# Altium schematic symbol library EAGLE-ISOLATED_CONVERTER-rev16e.SCHLIB: 23 symbols
Pins are listed as number, name and electrical type; pins without a type are passive.

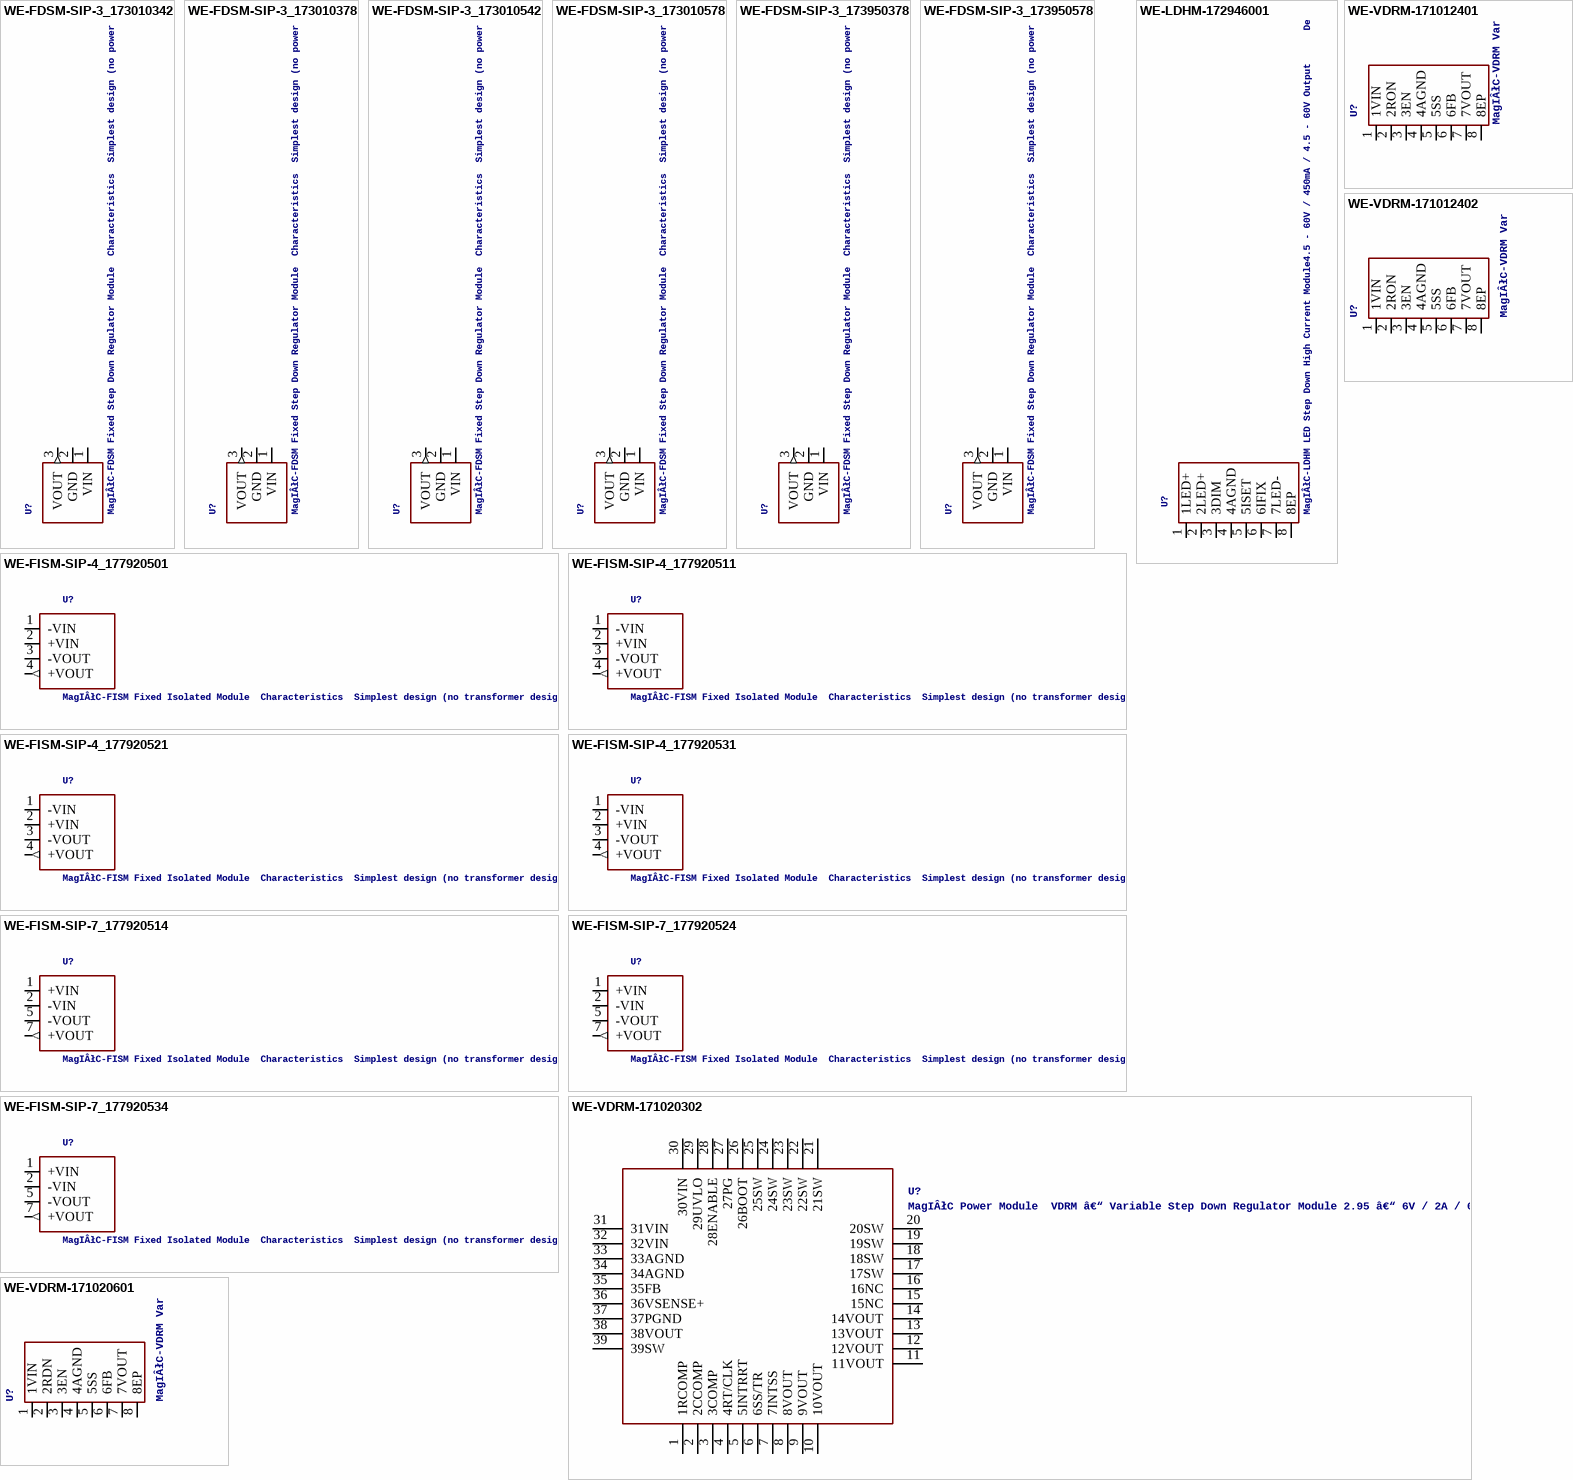
[diagram p0: symbols WE-FDSM-SIP-3_173010342 to WE-VDRM-171020601]

## WE-FDSM-SIP-3_173010342
designator U?, comment MagIÂłC-FDSM Fixed Step Down Regulator Module  Characteristics  Simplest design (no power supply knowledge required)  Leaded through-hole package for easy manufacturing and prototyping  Stand alone solution (CIN and COUT integrated, no external components)  L78x series linear regulator replacement (no heatsink required)  Low conducted and radiated EMI (compliant to EN55022 class B)   Applications  Point-of-Load from 24V, 18V, 15V, 12V, 9V rail  Replacement for linear regulators  Interface and microcontroller supply  Industrial, Test & Measurement, Medical applications  System power supplies      Details see: http://katalog.we-online.de/pm/datasheet/173010378.pdf   2015 (C) Wurth Elektronik
footprint FDSM-173XXXX42
pins: 1 VIN, 2 GND (power), 3 VOUT (out)

## WE-FDSM-SIP-3_173010378
designator U?, comment MagIÂłC-FDSM Fixed Step Down Regulator Module  Characteristics  Simplest design (no power supply knowledge required)  Leaded through-hole package for easy manufacturing and prototyping  Stand alone solution (CIN and COUT integrated, no external components)  L78x series linear regulator replacement (no heatsink required)  Low conducted and radiated EMI (compliant to EN55022 class B)   Applications  Point-of-Load from 24V, 18V, 15V, 12V, 9V rail  Replacement for linear regulators  Interface and microcontroller supply  Industrial, Test & Measurement, Medical applications  System power supplies      Details see: http://katalog.we-online.de/pm/datasheet/173010378.pdf   2015 (C) Wurth Elektronik
footprint FDSM_173010X78
pins: 1 VIN, 2 GND (power), 3 VOUT (out)

## WE-FDSM-SIP-3_173010542
designator U?, comment MagIÂłC-FDSM Fixed Step Down Regulator Module  Characteristics  Simplest design (no power supply knowledge required)  Leaded through-hole package for easy manufacturing and prototyping  Stand alone solution (CIN and COUT integrated, no external components)  L78x series linear regulator replacement (no heatsink required)  Low conducted and radiated EMI (compliant to EN55022 class B)   Applications  Point-of-Load from 24V, 18V, 15V, 12V, 9V rail  Replacement for linear regulators  Interface and microcontroller supply  Industrial, Test & Measurement, Medical applications  System power supplies      Details see: http://katalog.we-online.de/pm/datasheet/173010378.pdf   2015 (C) Wurth Elektronik
footprint FDSM-173XXXX42
pins: 1 VIN, 2 GND (power), 3 VOUT (out)

## WE-FDSM-SIP-3_173010578
designator U?, comment MagIÂłC-FDSM Fixed Step Down Regulator Module  Characteristics  Simplest design (no power supply knowledge required)  Leaded through-hole package for easy manufacturing and prototyping  Stand alone solution (CIN and COUT integrated, no external components)  L78x series linear regulator replacement (no heatsink required)  Low conducted and radiated EMI (compliant to EN55022 class B)   Applications  Point-of-Load from 24V, 18V, 15V, 12V, 9V rail  Replacement for linear regulators  Interface and microcontroller supply  Industrial, Test & Measurement, Medical applications  System power supplies      Details see: http://katalog.we-online.de/pm/datasheet/173010378.pdf   2015 (C) Wurth Elektronik
footprint FDSM_173010X78
pins: 1 VIN, 2 GND (power), 3 VOUT (out)

## WE-FDSM-SIP-3_173950378
designator U?, comment MagIÂłC-FDSM Fixed Step Down Regulator Module  Characteristics  Simplest design (no power supply knowledge required)  Leaded through-hole package for easy manufacturing and prototyping  Stand alone solution (CIN and COUT integrated, no external components)  L78x series linear regulator replacement (no heatsink required)  Low conducted and radiated EMI (compliant to EN55022 class B)   Applications  Point-of-Load from 24V, 18V, 15V, 12V, 9V rail  Replacement for linear regulators  Interface and microcontroller supply  Industrial, Test & Measurement, Medical applications  System power supplies      Details see: http://katalog.we-online.de/pm/datasheet/173010378.pdf   2015 (C) Wurth Elektronik
footprint FDSM_17395XX78
pins: 1 VIN, 2 GND (power), 3 VOUT (out)

## WE-FDSM-SIP-3_173950578
designator U?, comment MagIÂłC-FDSM Fixed Step Down Regulator Module  Characteristics  Simplest design (no power supply knowledge required)  Leaded through-hole package for easy manufacturing and prototyping  Stand alone solution (CIN and COUT integrated, no external components)  L78x series linear regulator replacement (no heatsink required)  Low conducted and radiated EMI (compliant to EN55022 class B)   Applications  Point-of-Load from 24V, 18V, 15V, 12V, 9V rail  Replacement for linear regulators  Interface and microcontroller supply  Industrial, Test & Measurement, Medical applications  System power supplies      Details see: http://katalog.we-online.de/pm/datasheet/173010378.pdf   2015 (C) Wurth Elektronik
footprint FDSM_17395XX78
pins: 1 VIN, 2 GND (power), 3 VOUT (out)

## WE-FISM-SIP-4_177920501
designator U?, comment MagIÂłC-FISM Fixed Isolated Module  Characteristics  Simplest design (no transformer design know how required)  Leaded through-hole package for easy manufacturing and prototyping  Stand alone solution (CIN and COUT integrated, no external components)  Simple functional isolation for overvoltage protection, avoiding ground loops, ground shift and noise in signal path or sensor systems  Industrial standard package and pin configuration  Low conducted and radiated EMI (compliant to EN55022 class B)  UL60950 certified    Applications  Data acquisition  Test and measurement systems  Interface and microcontroller supply  Industrial control       Details see: http://katalog.we-online.de/en/pm/MAGIC-FISM    Created by Yingchun,Shan 2016 (C) Wurth Elektronik
footprint FISM_17792XXX1
pins: 1 -VIN (power), 2 +VIN, 3 -VOUT (power), 4 +VOUT (out)

## WE-FISM-SIP-4_177920511
designator U?, comment MagIÂłC-FISM Fixed Isolated Module  Characteristics  Simplest design (no transformer design know how required)  Leaded through-hole package for easy manufacturing and prototyping  Stand alone solution (CIN and COUT integrated, no external components)  Simple functional isolation for overvoltage protection, avoiding ground loops, ground shift and noise in signal path or sensor systems  Industrial standard package and pin configuration  Low conducted and radiated EMI (compliant to EN55022 class B)  UL60950 certified    Applications  Data acquisition  Test and measurement systems  Interface and microcontroller supply  Industrial control       Details see: http://katalog.we-online.de/en/pm/MAGIC-FISM    Created by Yingchun,Shan 2016 (C) Wurth Elektronik
footprint FISM_17792XXX1
pins: 1 -VIN (power), 2 +VIN, 3 -VOUT (power), 4 +VOUT (out)

## WE-FISM-SIP-4_177920521
designator U?, comment MagIÂłC-FISM Fixed Isolated Module  Characteristics  Simplest design (no transformer design know how required)  Leaded through-hole package for easy manufacturing and prototyping  Stand alone solution (CIN and COUT integrated, no external components)  Simple functional isolation for overvoltage protection, avoiding ground loops, ground shift and noise in signal path or sensor systems  Industrial standard package and pin configuration  Low conducted and radiated EMI (compliant to EN55022 class B)  UL60950 certified    Applications  Data acquisition  Test and measurement systems  Interface and microcontroller supply  Industrial control       Details see: http://katalog.we-online.de/en/pm/MAGIC-FISM    Created by Yingchun,Shan 2016 (C) Wurth Elektronik
footprint FISM_17792XXX1
pins: 1 -VIN (power), 2 +VIN, 3 -VOUT (power), 4 +VOUT (out)

## WE-FISM-SIP-4_177920531
designator U?, comment MagIÂłC-FISM Fixed Isolated Module  Characteristics  Simplest design (no transformer design know how required)  Leaded through-hole package for easy manufacturing and prototyping  Stand alone solution (CIN and COUT integrated, no external components)  Simple functional isolation for overvoltage protection, avoiding ground loops, ground shift and noise in signal path or sensor systems  Industrial standard package and pin configuration  Low conducted and radiated EMI (compliant to EN55022 class B)  UL60950 certified    Applications  Data acquisition  Test and measurement systems  Interface and microcontroller supply  Industrial control       Details see: http://katalog.we-online.de/en/pm/MAGIC-FISM    Created by Yingchun,Shan 2016 (C) Wurth Elektronik
footprint FISM_17792XXX1
pins: 1 -VIN (power), 2 +VIN, 3 -VOUT (power), 4 +VOUT (out)

## WE-FISM-SIP-7_177920514
designator U?, comment MagIÂłC-FISM Fixed Isolated Module  Characteristics  Simplest design (no transformer design know how required)  Leaded through-hole package for easy manufacturing and prototyping  Stand alone solution (CIN and COUT integrated, no external components)  Simple functional isolation for overvoltage protection, avoiding ground loops, ground shift and noise in signal path or sensor systems  Industrial standard package and pin configuration  Low conducted and radiated EMI (compliant to EN55022 class B)  UL60950 certified    Applications  Data acquisition  Test and measurement systems  Interface and microcontroller supply  Industrial control       Details see: http://katalog.we-online.de/en/pm/MAGIC-FISM    Created by Yingchun,Shan 2016 (C) Wurth Elektronik
footprint FISM_17792XXX4
pins: 1 +VIN, 2 -VIN (power), 5 -VOUT (power), 7 +VOUT (out)

## WE-FISM-SIP-7_177920524
designator U?, comment MagIÂłC-FISM Fixed Isolated Module  Characteristics  Simplest design (no transformer design know how required)  Leaded through-hole package for easy manufacturing and prototyping  Stand alone solution (CIN and COUT integrated, no external components)  Simple functional isolation for overvoltage protection, avoiding ground loops, ground shift and noise in signal path or sensor systems  Industrial standard package and pin configuration  Low conducted and radiated EMI (compliant to EN55022 class B)  UL60950 certified    Applications  Data acquisition  Test and measurement systems  Interface and microcontroller supply  Industrial control       Details see: http://katalog.we-online.de/en/pm/MAGIC-FISM    Created by Yingchun,Shan 2016 (C) Wurth Elektronik
footprint FISM_17792XXX4
pins: 1 +VIN, 2 -VIN (power), 5 -VOUT (power), 7 +VOUT (out)

## WE-FISM-SIP-7_177920534
designator U?, comment MagIÂłC-FISM Fixed Isolated Module  Characteristics  Simplest design (no transformer design know how required)  Leaded through-hole package for easy manufacturing and prototyping  Stand alone solution (CIN and COUT integrated, no external components)  Simple functional isolation for overvoltage protection, avoiding ground loops, ground shift and noise in signal path or sensor systems  Industrial standard package and pin configuration  Low conducted and radiated EMI (compliant to EN55022 class B)  UL60950 certified    Applications  Data acquisition  Test and measurement systems  Interface and microcontroller supply  Industrial control       Details see: http://katalog.we-online.de/en/pm/MAGIC-FISM    Created by Yingchun,Shan 2016 (C) Wurth Elektronik
footprint FISM_17792XXX4
pins: 1 +VIN, 2 -VIN (power), 5 -VOUT (power), 7 +VOUT (out)

## WE-LDHM-172946001
designator U?, comment MagIÂłC-LDHM LED Step Down High Current Module4.5 - 60V / 450mA / 4.5 - 60V Output      Details see: http://katalog.we-online.de/pm/datasheet/172946001.pdf   Created date 2014-06-19 2014 (C) WĂĽrth Elektronik
footprint 172946001
pins: 1 1LED+, 2 2LED+, 3 3DIM, 4 4AGND, 5 5ISET, 6 6IFIX, 7 7LED-, 8 8EP

## WE-VDRM-171012401
designator U?, comment MagIÂłC-VDRM Variable Step Down Regulator Module  6-42V / 1.0A / 5-24V Output       Details see: http://katalog.we-online.de/pm/datasheet/171012401.pdf
MANUFACTURER: Würth Elektronik eiSos GmbH; COMPANY-URL: http://www.we-online.de; CREATED-DATE: JAN 2014; DATASHEET-URL: http://katalog.we-online.de/pm/datasheet/171012401.pdf
footprint 7PIN-PFM
pins: 1 1VIN, 2 2RON, 3 3EN, 4 4AGND, 5 5SS, 6 6FB, 7 7VOUT, 8 8EP

## WE-VDRM-171012402
designator U?, comment MagIÂłC-VDRM Variable Step Down Regulator Module  6-42V / 1.5A / 5-24V  Output       Details see: http://katalog.we-online.de/pm/datasheet/171012402.pdf
MANUFACTURER: Würth Elektronik eiSos GmbH; COMPANY-URL: http://www.we-online.de; CREATED-DATE: JAN 2014; DATASHEET-URL: http://katalog.we-online.de/pm/datasheet/171012402.pdf
footprint 7PIN-PFM
pins: 1 1VIN, 2 2RON, 3 3EN, 4 4AGND, 5 5SS, 6 6FB, 7 7VOUT, 8 8EP

## WE-VDRM-171020302
designator U?, comment MagIÂłC Power Module  VDRM â€“ Variable Step Down Regulator Module 2.95 â€“ 6V / 2A / 0.8 â€“ 3.6V Output  DESCRIPTION  The Magi3C 171020302, 171040302 and 171060302 Power Module family provide a fully integrated DC-DC power supply including the switching regulator, regulation loop, power mosfets and shielded inductor in one package. This modules require as few as 3 external components. The 171020302 offers high efficiency and delivers up to 2A of output current. It operates from 2.95 to 6V input voltage and is designed for fast transient response. It is available in a standard industrial high power density QFN package (11mm x 9mm x 2.8mm) with very good thermal performance. This module has an on-board protection circuitry to guard against thermal overstress and electrical damage featuring thermal shut-down, over-current, short-circuit,over-voltage and under-voltage protections.  FEATURES  â€˘Peak efficiency up to 95% â€˘Current capability up to 2A â€˘Output voltage range: 0.8 to 3.6V â€˘Current Mode control â€˘Synchronuos operation  â€˘1% reference accuracy over temperature â€˘Adjustable switching frequency (0.5 to 2 MHz) â€˘Continuous output power: 7.2W â€˘No derating within the operating temperature range â€˘Integrated shielded inductor â€˘Under-voltage lockout protection â€˘Programmable soft-start and voltage tracking â€˘Frequency synchronization to external clock â€˘Thermal shutdownl â€˘Operating ambient temperature up to 85Â°C â€˘Inrush current protection â€˘Adjustable soft start and sequencing â€˘Cycle by cycle short circuit protection â€˘Under-voltage and over-voltage Power Good â€˘Pin compatible with WE171040302 & WE171060302 â€˘Complies with EN55022 class B radiated emissions standard  TYPICAL APPLICATIONS  â€˘Point-of-load DC-DC applications from 5V and 3.3V rails â€˘Industrial, test & measurement, medical applications â€˘System power supplies â€˘DSPs, FPGAs, MCUs and MPU supply â€˘Communication infrastructure â€˘High density distributed power systems     Details see: http://katalog.we-online.de/pm/datasheet/171020302.pdf   2015 (C) WĂĽrth Elektronik
footprint BQFN-39_1710X0302
pins: 1 1RCOMP, 2 2CCOMP, 3 3COMP, 4 4RT/CLK, 5 5INTRRT, 6 6SS/TR, 7 7INTSS, 8 8VOUT, 9 9VOUT, 10 10VOUT, 11 11VOUT, 12 12VOUT, 13 13VOUT, 14 14VOUT, 15 15NC, 16 16NC, 17 17SW, 18 18SW, 19 19SW, 20 20SW, 21 21SW, 22 22SW, 23 23SW, 24 24SW, 25 25SW, 26 26BOOT, 27 27PG, 28 28ENABLE, 29 29UVLO, 30 30VIN, 31 31VIN, 32 32VIN, 33 33AGND, 34 34AGND, 35 35FB, 36 36VSENSE+, 37 37PGND, 38 38VOUT, 39 39SW

## WE-VDRM-171020601
designator U?, comment MagIÂłC-VDRM Variable Step Down Regulator Module  6-42V /2A /0.8-6V Output       Details see: http://katalog.we-online.de/pm/datasheet/171020601.pdf
MANUFACTURER: Würth Elektronik eiSos GmbH; COMPANY-URL: http://www.we-online.de; CREATED-DATE: JAN 2014; DATASHEET-URL: http://katalog.we-online.de/pm/datasheet/171020601.pdf
footprint 7PIN-PFM
pins: 1 1VIN, 2 2RDN, 3 3EN, 4 4AGND, 5 5SS, 6 6FB, 7 7VOUT, 8 8EP

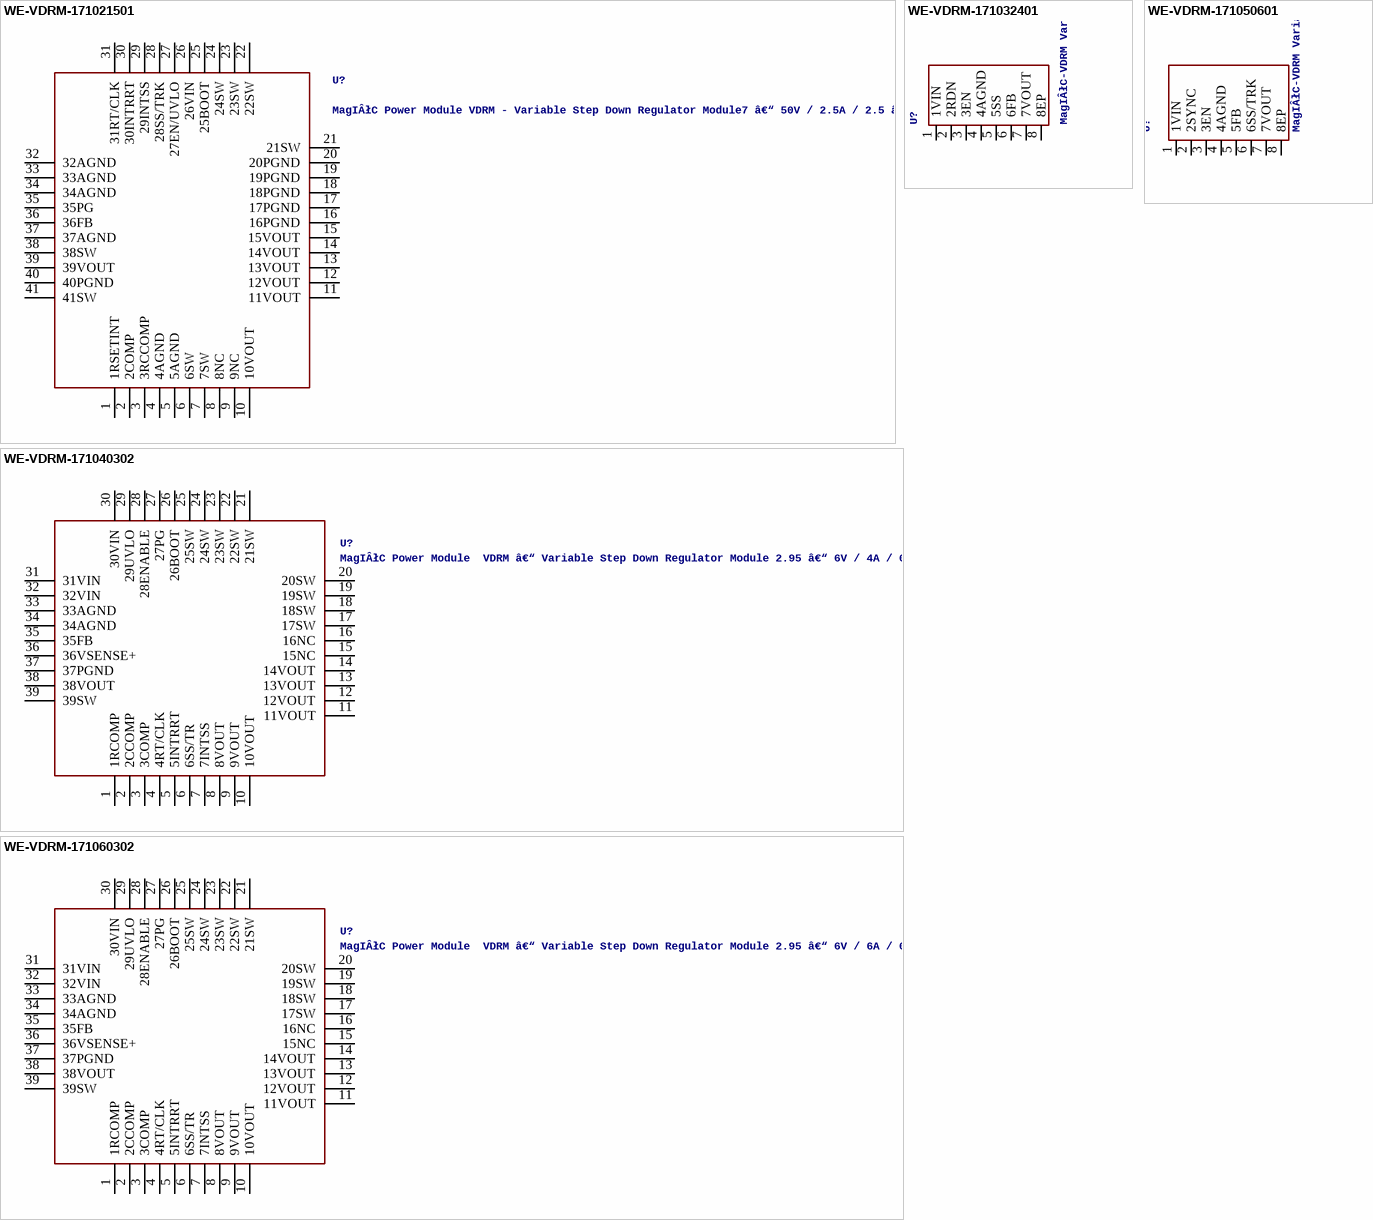
[diagram p1: symbols WE-VDRM-171021501 to WE-VDRM-171060302]

## WE-VDRM-171021501
designator U?, comment MagIÂłC Power Module VDRM - Variable Step Down Regulator Module7 â€“ 50V / 2.5A / 2.5 â€“ 15V Output     Details see: Updated on  2014-07-11 2014 (C) WĂĽrth Elektronik
footprint BQFN-41_171021501
pins: 1 1RSETINT, 2 2COMP, 3 3RCCOMP, 4 4AGND, 5 5AGND, 6 6SW, 7 7SW, 8 8NC, 9 9NC, 10 10VOUT, 11 11VOUT, 12 12VOUT, 13 13VOUT, 14 14VOUT, 15 15VOUT, 16 16PGND, 17 17PGND, 18 18PGND, 19 19PGND, 20 20PGND, 21 21SW, 22 22SW, 23 23SW, 24 24SW, 25 25BOOT, 26 26VIN, 27 27EN/UVLO, 28 28SS/TRK, 29 29INTSS, 30 30INTRRT, 31 31RT/CLK, 32 32AGND, 33 33AGND, 34 34AGND, 35 35PG, 36 36FB, 37 37AGND, 38 38SW, 39 39VOUT, 40 40PGND, 41 41SW

## WE-VDRM-171032401
designator U?, comment MagIÂłC-VDRM Variable Step Down Regulator Module  6-42V /3A /5-24V Output       Details see: http://katalog.we-online.de/pm/datasheet/171032401.pdf
MANUFACTURER: Würth Elektronik eiSos GmbH; COMPANY-URL: http://www.we-online.de; CREATED-DATE: JAN 2014; DATASHEET-URL: http://katalog.we-online.de/pm/datasheet/171032401.pdf
footprint 7PIN-PFM
pins: 1 1VIN, 2 2RDN, 3 3EN, 4 4AGND, 5 5SS, 6 6FB, 7 7VOUT, 8 8EP

## WE-VDRM-171040302
designator U?, comment MagIÂłC Power Module  VDRM â€“ Variable Step Down Regulator Module 2.95 â€“ 6V / 4A / 0.8 â€“ 3.6V Output  DESCRIPTION  The Magi3C 171020302, 171040302 and 171060302 Power Module family provide a fully integrated DC-DC power supply including the switching regulator, regulation loop, power mosfets and shielded inductor in one package. This modules require as few as 3 external components. The 171040302 offers high efficiency and delivers up to 4A of output current. It operates from 2.95 to 6V input voltage and is designed for fast transient response. It is available in a standard industrial high power density QFN package (11mm x 9mm x 2.8mm) with very good thermal performance. This module has an on-board protection circuitry to guard against thermal overstress and electrical damage featuring thermal shut-down, over-current, short-circuit,over-voltage and under-voltage protections.  FEATURES  â€˘Peak efficiency up to 96% â€˘Current capability up to 4A â€˘Output voltage range: 0.8 to 3.6V â€˘Current Mode control â€˘Synchronuos operation  â€˘1% reference accuracy over temperature â€˘Adjustable switching frequency (0.5 to 2 MHz) â€˘Continuous output power: 14.4W â€˘No derating within the operating temperature range â€˘Integrated shielded inductor â€˘Under-voltage lockout protection â€˘Programmable soft-start and voltage tracking â€˘Frequency synchronization to external clock â€˘Thermal shutdownl â€˘Operating ambient temperature up to 85Â°C â€˘Inrush current protection â€˘Adjustable soft start and sequencing â€˘Cycle by cycle short circuit protection â€˘Under-voltage and over-voltage Power Good â€˘Pin compatible with WE171040302 & WE171060302 â€˘Complies with EN55022 class B radiated emissions standard  TYPICAL APPLICATIONS  â€˘Point-of-load DC-DC applications from 5V and 3.3V rails â€˘Industrial, test & measurement, medical applications â€˘System power supplies â€˘DSPs, FPGAs, MCUs and MPU supply â€˘Communication infrastructure â€˘High density distributed power systems     Details see: http://katalog.we-online.de/pm/datasheet/171040302.pdf   2015 (C) WĂĽrth Elektronik
footprint BQFN-39_1710X0302
pins: 1 1RCOMP, 2 2CCOMP, 3 3COMP, 4 4RT/CLK, 5 5INTRRT, 6 6SS/TR, 7 7INTSS, 8 8VOUT, 9 9VOUT, 10 10VOUT, 11 11VOUT, 12 12VOUT, 13 13VOUT, 14 14VOUT, 15 15NC, 16 16NC, 17 17SW, 18 18SW, 19 19SW, 20 20SW, 21 21SW, 22 22SW, 23 23SW, 24 24SW, 25 25SW, 26 26BOOT, 27 27PG, 28 28ENABLE, 29 29UVLO, 30 30VIN, 31 31VIN, 32 32VIN, 33 33AGND, 34 34AGND, 35 35FB, 36 36VSENSE+, 37 37PGND, 38 38VOUT, 39 39SW

## WE-VDRM-171050601
designator U?, comment MagIÂłC-VDRM Variable Step Down Regulator Module  6-36V /5A /0.8-6V Output       Details see: http://katalog.we-online.de/pm/datasheet/171050601.pdf
MANUFACTURER: Würth Elektronik eiSos GmbH; COMPANY-URL: http://www.we-online.de; CREATED-DATE: JAN 2014; DATASHEET-URL: http://katalog-live.we-online.de/pm/datasheet/171050601.pdf
footprint 7PIN-PFM
pins: 1 1VIN, 2 2SYNC, 3 3EN, 4 4AGND, 5 5FB, 6 6SS/TRK, 7 7VOUT, 8 8EP

## WE-VDRM-171060302
designator U?, comment MagIÂłC Power Module  VDRM â€“ Variable Step Down Regulator Module 2.95 â€“ 6V / 6A / 0.8 â€“ 3.6V Output  DESCRIPTION  The Magi3C 171020302, 171040302 and 171060302 Power Module family provide a fully integrated DC-DC power supply including the switching regulator, regulation loop, power mosfets and shielded inductor in one package. This modules require as few as 3 external components. The 171060302 offers high efficiency and delivers up to 6A of output current. It operates from 2.95 to 6V input voltage and is designed for fast transient response. It is available in a standard industrial high power density QFN package (11mm x 9mm x 2.8mm) with very good thermal performance. This module has an on-board protection circuitry to guard against thermal overstress and electrical damage featuring thermal shut-down, over-current, short-circuit,over-voltage and under-voltage protections.  FEATURES  â€˘Peak efficiency up to 96% â€˘Current capability up to 6A â€˘Output voltage range: 0.8 to 3.6V â€˘Current Mode control â€˘Synchronuos operation  â€˘1% reference accuracy over temperature â€˘Adjustable switching frequency (0.5 to 2 MHz) â€˘Continuous output power: 21.6W â€˘No derating within the operating temperature range â€˘Integrated shielded inductor â€˘Under-voltage lockout protection â€˘Programmable soft-start and voltage tracking â€˘Frequency synchronization to external clock â€˘Thermal shutdownl â€˘Operating ambient temperature up to 85Â°C â€˘Inrush current protection â€˘Adjustable soft start and sequencing â€˘Cycle by cycle short circuit protection â€˘Under-voltage and over-voltage Power Good â€˘Pin compatible with WE171040302 & WE171060302 â€˘Complies with EN55022 class B radiated emissions standard  TYPICAL APPLICATIONS  â€˘Point-of-load DC-DC applications from 5V and 3.3V rails â€˘Industrial, test & measurement, medical applications â€˘System power supplies â€˘DSPs, FPGAs, MCUs and MPU supply â€˘Communication infrastructure â€˘High density distributed power systems     Details see: http://katalog.we-online.de/pm/datasheet/171040302.pdf   2015 (C) WĂĽrth Elektronik
footprint BQFN-39_1710X0302
pins: 1 1RCOMP, 2 2CCOMP, 3 3COMP, 4 4RT/CLK, 5 5INTRRT, 6 6SS/TR, 7 7INTSS, 8 8VOUT, 9 9VOUT, 10 10VOUT, 11 11VOUT, 12 12VOUT, 13 13VOUT, 14 14VOUT, 15 15NC, 16 16NC, 17 17SW, 18 18SW, 19 19SW, 20 20SW, 21 21SW, 22 22SW, 23 23SW, 24 24SW, 25 25SW, 26 26BOOT, 27 27PG, 28 28ENABLE, 29 29UVLO, 30 30VIN, 31 31VIN, 32 32VIN, 33 33AGND, 34 34AGND, 35 35FB, 36 36VSENSE+, 37 37PGND, 38 38VOUT, 39 39SW